# Altium footprint library BC846-B.PcbLib: 1 footprints
Each footprint in its own frame and in the unit in brackets; x right, y up, seen from the top. Pads: shape width x height; smd on the part's side, far side on the other; paste and mask are expansions set on the pad; w line width, h text height; cw(c..) or ccw(c..) is an arc to the next point about the centre after c.
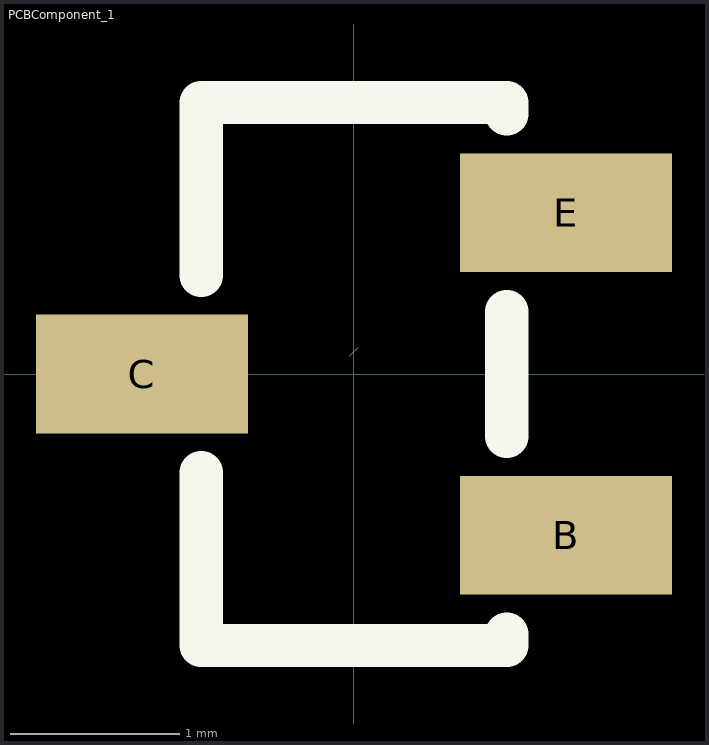
[diagram p0: the footprint, top view; thin cyan lines are the x and y axes]

## PCBComponent_1 [mm]
pads (3):
  rect 1.25x0.7 smd: B(1.25,-0.95) C(-1.25,0) E(1.25,0.95)
Top Overlay:
  lines w0.254: -0.9,-0.581 -0.9,-1.6 0.9,-1.6 0.9,-1.531 ; -0.9,0.581 -0.9,1.6 0.9,1.6 0.9,1.531 ; 0.9,-0.369 0.9,0.369
Mechanical 15:
  lines w0.003: -0.025,0.107 0.025,0.158
3D body "CircuitWorks-SOT-23.step": height 1.11, standoff 0.01, extent -1.25,-1.5 1.25,1.5